# EAGLE library part WE-TVS_824013 (library di_ic)
TVS Diode Array WE-TVS, High Speed Series - Low capazity - No leakage current - Low clamping voltage - high ESD voltage protection -- 3.3 VDC Application
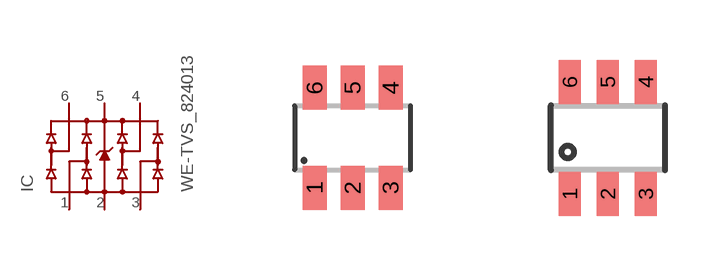
[diagram p63: symbol with the pads of WE-TVS_SOT23-6L; footprints WE-TVS_SOT23-6L, SOT23-6]

Designator prefix IC

## WE-TVS_824013WURTH  [WE-TVS_SOT23-6L]
1  1  pas
2  GND  pwr
3  2  pas
4  3  pas
5  +3.3V  pwr
6  4  pas

## WE-TVS_824013SOT23-6 (PARTNUM: 824013)  [SOT23-6]
Pads as for WE-TVS_SOT23-6L

## Footprint WE-TVS_SOT23-6L (pad centres in mm)
TVS Diode Array WE-TVS
smd 0.6 x 1.1: 1 -0.95,-1.25; 2 0,-1.25; 3 0.95,-1.25; 4 0.95,1.25; 5 0,1.25; 6 -0.95,1.25

## Footprint SOT23-6 (pad centres in mm)
Small Outline Transistor
smd 0.55 x 1.1: 1 -0.95,-1.4; 2 0,-1.4; 3 0.95,-1.4; 4 0.95,1.4; 5 0,1.4; 6 -0.95,1.4